# Altium footprint library TSSOP-16PP.PcbLib: 1 footprints
Each footprint in its own frame and in the unit in brackets; x right, y up, seen from the top. Pads: shape width x height; smd on the part's side, far side on the other; paste and mask are expansions set on the pad; w line width, h text height; cw(c..) or ccw(c..) is an arc to the next point about the centre after c.
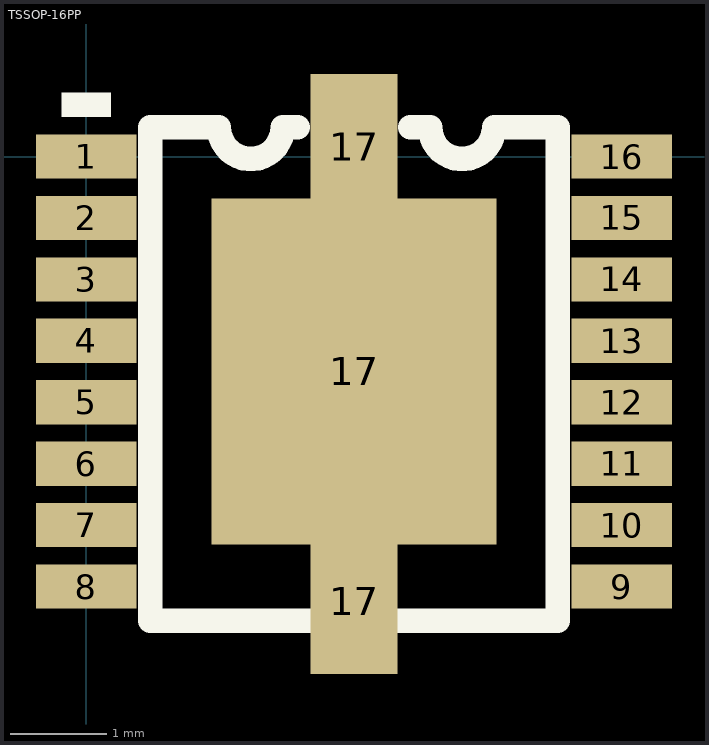
[diagram p0: the footprint, top view; thin cyan lines are the x and y axes]

## TSSOP-16PP [mil]
height 120
pads (19):
  rect 41x18 smd: 1(0,0) 2(0,-25) 3(0,-50) 4(0,-75) 5(0,-100) 6(0,-125) 7(0,-150) 8(0,-175) 9(218,-175) 10(218,-150) 11(218,-125) 12(218,-100) 13(218,-75) 14(218,-50) 15(218,-25) 16(218,0)
  rect 35.43x59.05 smd: 17(109,-181) 17(109,4)
  rect 115.98x140.98 smd: 17(109.02,-87.48)
TopOverlay:
  rectangle: -10,16 10,26
  lines w10: 86,12 80,12 cw(c67,12) 54,12 26,12 26,-189 192,-189 192,12 166,12 cw(c153,12) 140,12 132,12